# EAGLE library part SSM2212 (library analog_2020)
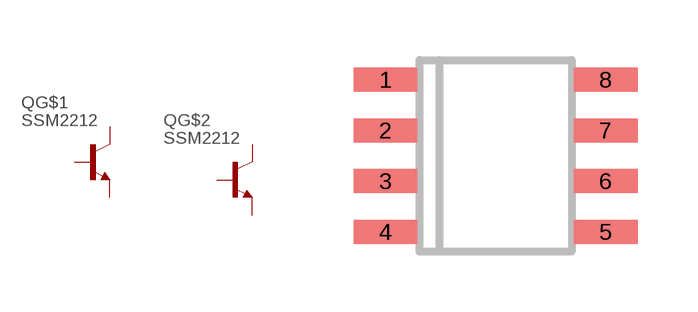
[diagram p3: symbol with the pads of SOIC-08; footprint SOIC-08]

Designator prefix Q; gates G$1=NPN G$2=NPN

## SSM2212RZ  [SOIC-08]
1  G$1:C  pas
2  G$1:B  pas
3  G$1:E  pas
6  G$2:E  pas
7  G$2:B  pas
8  G$2:C  pas

## Footprint SOIC-08 (pad centres in mm)
smd 1.6 x 0.6: 1 -2.75,1.905; 2 -2.75,0.635; 3 -2.75,-0.635; 4 -2.75,-1.905; 5 2.75,-1.905; 6 2.75,-0.635; 7 2.75,0.635; 8 2.75,1.905